# Altium schematic symbol library ZHZ_Balance.SCHLIB: 14 symbols
Pins are listed as number, name and electrical type; pins without a type are passive.

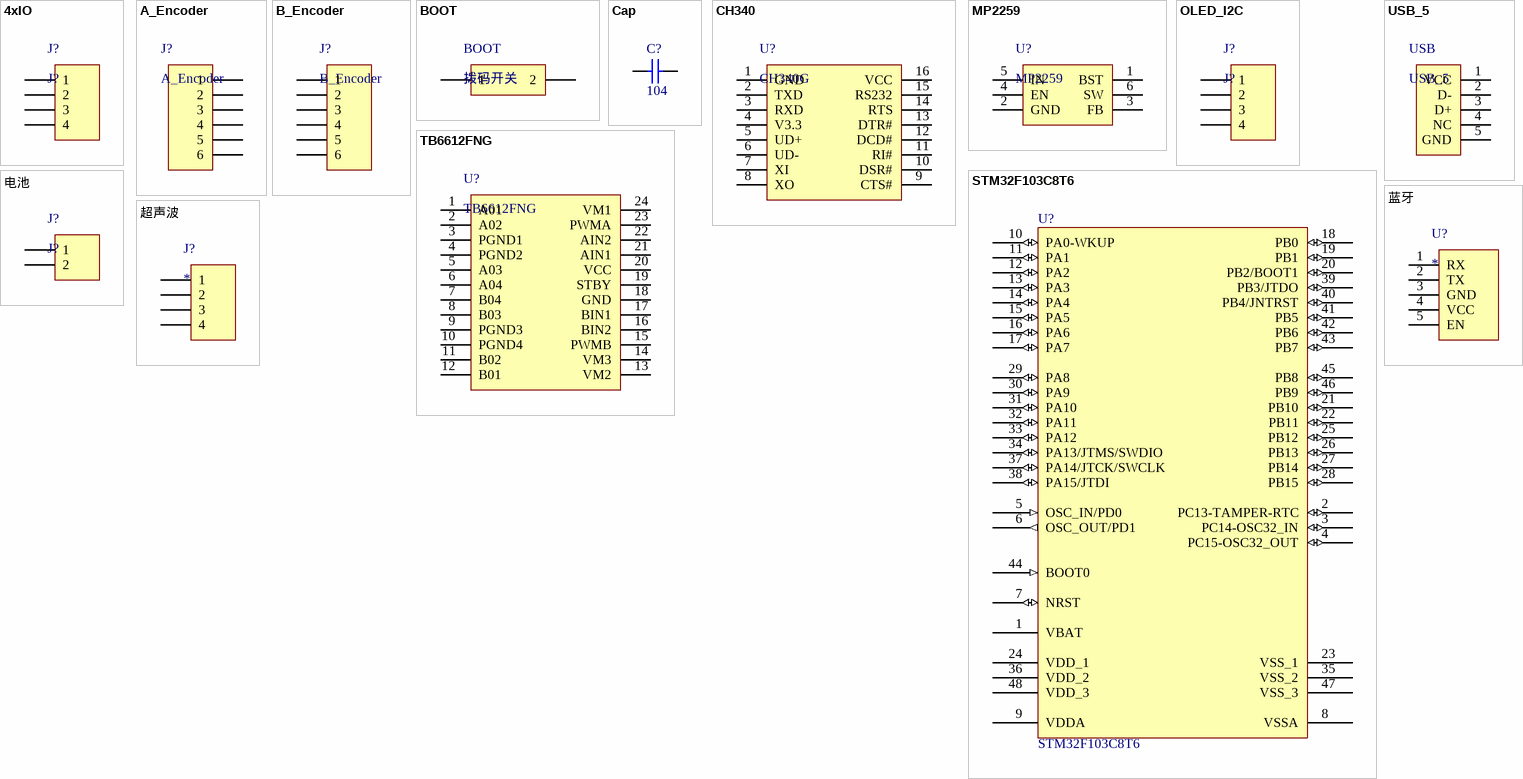
[diagram p0: symbols 4xIO to 超声波]

## 4xIO
designator J?, comment J?
pins: 1 (oc), 2 (oc), 3 (oc), 4 (power)

## A_Encoder
designator J?
pins: 1 (power), 2 (power), 3 (power), 4 (power), 5 (power), 6 (power)

## B_Encoder
designator J?
pins: 1 (power), 2 (power), 3 (power), 4 (power), 5 (power), 6 (power)

## BOOT
designator BOOT, comment 拨码开关
pins: 1 (power), 2 (power)

## Cap
designator C?  value 104  (hidden comment: Cap)
Capacitor; Published: 8-Jun-2000; LatestRevisionDate: 17-Jul-2002; LatestRevisionNote: Re-released for DXP Platform.; PackageReference: RAD-0.3; Publisher: Altium Limited; PackageDescription: Radial Cap, Thru-Hole; 2 Leads; 0.3 in Pin Spacing
footprint 贴片电容8050C
simulation model CAP (Capacitor)
signal-integrity model Cap
footprint 0805C
pins: 1, 2

## CH340
designator U?, comment CH340G
pins: 1 GND (power), 2 TXD (oc), 3 RXD (oc), 4 V3.3 (power), 5 UD+ (oc), 6 UD- (oc), 7 XI (power), 8 XO (power), 9 CTS# (power), 10 DSR# (power), 11 RI# (power), 12 DCD# (power), 13 DTR# (oc), 14 RTS (oc), 15 RS232 (power), 16 VCC (power)

## MP2259
designator U?
pins: 1 BST (oc), 2 GND (power), 3 FB (oc), 4 EN (oc), 5 IN (power), 6 SW (oc)

## OLED_I2C
designator J?, comment J?
pins: 1 (power), 2 (power), 3 (oc), 4 (oc)

## STM32F103C8T6
designator U?
footprint LQFP48 7X7
pins: 1 VBAT (power), 2 PC13-TAMPER-RTC (io), 3 PC14-OSC32_IN (io), 4 PC15-OSC32_OUT (io), 5 OSC_IN/PD0 (in), 6 OSC_OUT/PD1 (out), 7 NRST (io), 8 VSSA (power), 9 VDDA (power), 10 PA0-WKUP (io), 11 PA1 (io), 12 PA2 (io), 13 PA3 (io), 14 PA4 (io), 15 PA5 (io), 16 PA6 (io), 17 PA7 (io), 18 PB0 (io), 19 PB1 (io), 20 PB2/BOOT1 (io), 21 PB10 (io), 22 PB11 (io), 23 VSS_1 (power), 24 VDD_1 (power), 25 PB12 (io), 26 PB13 (io), 27 PB14 (io), 28 PB15 (io), 29 PA8 (io), 30 PA9 (io), 31 PA10 (io), 32 PA11 (io), 33 PA12 (io), 34 PA13/JTMS/SWDIO (io), 35 VSS_2 (power), 36 VDD_2 (power), 37 PA14/JTCK/SWCLK (io), 38 PA15/JTDI (io), 39 PB3/JTDO (io), 40 PB4/JNTRST (io), 41 PB5 (io), 42 PB6 (io), 43 PB7 (io), 44 BOOT0 (in), 45 PB8 (io), 46 PB9 (io), 47 VSS_3 (power), 48 VDD_3 (power)

## TB6612FNG
designator U?
pins: 1 A01 (oc), 2 A02 (oc), 3 PGND1 (power), 4 PGND2 (power), 5 A03 (power), 6 A04 (power), 7 B04 (power), 8 B03 (power), 9 PGND3 (power), 10 PGND4 (power), 11 B02 (power), 12 B01 (power), 13 VM2 (power), 14 VM3 (power), 15 PWMB (power), 16 BIN2 (power), 17 BIN1 (power), 18 GND (power), 19 STBY (power), 20 VCC (power), 21 AIN1 (power), 22 AIN2 (power), 23 PWMA (power), 24 VM1 (power)

## USB_5
designator USB
pins: 1 VCC (power), 2 D- (oc), 3 D+ (oc), 4 NC (oc), 5 GND (power)

## 电池
designator J?, comment J?
pins: 1 (power), 2 (power)

## 蓝牙
designator U?
pins: 1 RX (power), 2 TX (power), 3 GND (power), 4 VCC (power), 5 EN (power)

## 超声波
designator J?
pins: 1 (power), 2 (oc), 3 (oc), 4 (power)